# Altium footprint library adafruit.PCBLIB: 643 footprints (part 36 of 41)
Each footprint in its own frame and in the unit in brackets; x right, y up, seen from the top. Pads: shape width x height; smd on the part's side, far side on the other; paste and mask are expansions set on the pad; w line width, h text height; cw(c..) or ccw(c..) is an arc to the next point about the centre after c.
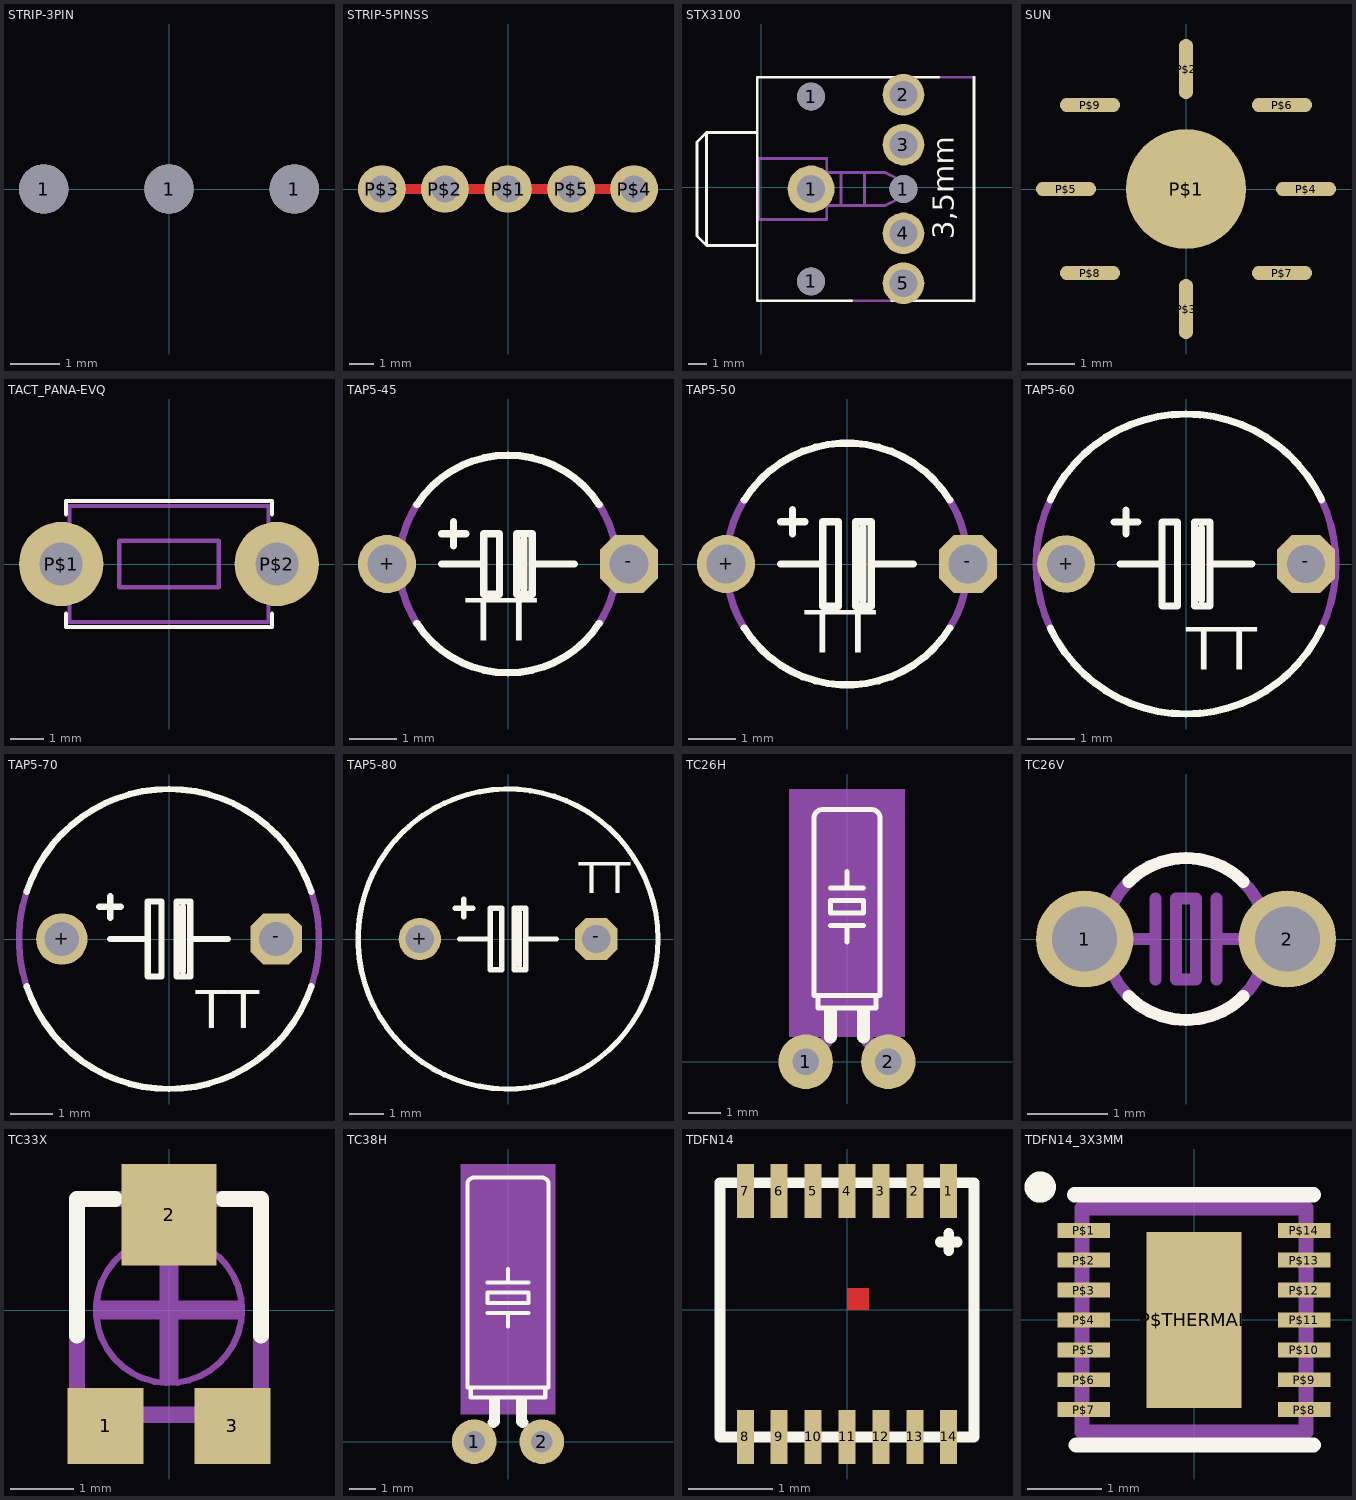
[diagram p35: the footprints below, top view; thin cyan lines are the x and y axes]

## STRIP-3PIN [mm]
pads (3):
  round 1 hole 1: 1(-2.54,0) 1(0,0) 1(2.54,0)
Top Layer:
  region: 0,0 0.254,0 0.254,0.254 0,0.254

## STRIP-5PINSS [mil]
pads (5):
  round 76 hole 43.31: P$1(0,0) P$2(-100,0) P$3(-200,0) P$4(200,0) P$5(100,0)
Top Layer:
  lines w16: -200,0 200,0

## STX3100 [mm]
pads (8):
  round 1.5 hole 1.5: 1(2.7,-5.1) 1(2.7,4.9) 1(7.7,-0.1)
  round 2.54 hole 1.5: 1(2.7,-0.1)
  round 2.25 hole 1.5: 2(7.7,5) 3(7.7,2.3) 4(7.7,-2.5) 5(7.7,-5.2)
Top Overlay:
  lines w0.152: 4.906,-6.142 -0.212,-6.142 -0.212,-3.148 ; 7.065,-6.142 11.512,-6.142 11.512,5.942 11.51,5.942 ; 9.605,5.942 -0.212,5.942 -0.212,2.948 ; -2.96,-3.148 -0.212,-3.148 ; -2.96,-3.148 -3.468,-2.64 -3.468,2.44 -2.96,2.948 ; -2.96,-3.148 -2.96,2.948 ; -2.96,2.948 -0.212,2.948 ; -0.212,-3.148 -0.212,2.948
  text "3,5mm" at 10.79,-2.831 h1.97
Mechanical 16:
  lines w0.152: 4.806,-6.142 6.965,-6.142 ; 9.605,5.942 11.51,5.942 ; 3.552,-0.989 3.552,0.789 ; 3.552,-0.989 3.552,-1.751 -0.131,-1.751 -0.131,1.551 3.552,1.551 3.552,0.789 ; 3.552,-0.989 4.314,-0.989 ; 3.552,0.789 4.314,0.789 ; 4.314,-0.989 5.584,-0.989 ; 4.314,-0.989 4.314,0.789 ; 4.314,0.789 5.584,0.789 ; 5.584,-0.989 5.584,0.789 ; 5.584,-0.989 6.727,-0.989 7.489,-0.608 7.489,0.408 6.727,0.789 5.584,0.789

## SUN [mil]
pads (9):
  rrect100% 100x100 smd: P$1(0,0)
  rrect100% 12x50 smd: P$2(0,100) P$3(0,-100)
  rrect100% 50x12 smd: P$4(100,0) P$5(-100,0) P$6(80,70) P$7(80,-70) P$8(-80,-70) P$9(-80,70)

## TACT_PANA-EVQ [mil]
pads (2):
  round 100 hole 51.18: P$1(-127.95,0) P$2(127.95,0)
Top Overlay:
  lines w5: -122.05,-59.06 -122.05,-74.8 122.05,-74.8 122.05,-59.06 ; -122.05,59.06 -122.05,74.8 122.05,74.8 122.05,59.06
Mechanical 16:
  lines w5: -118.11,-19.69 -118.11,-68.9 118.11,-68.9 118.11,-19.69 ; -118.11,-19.69 -118.11,19.69 ; -118.11,-19.69 -118.11,19.69 ; -118.11,-19.69 -155.51,-19.69 -155.51,0 -155.51,19.69 -118.11,19.69 ; -118.11,19.69 -118.11,68.9 118.11,68.9 118.11,19.69 ; 118.11,-19.69 118.11,19.69 ; 118.11,-19.69 118.11,19.69 ; 118.11,-19.69 155.51,-19.69 155.51,19.69 ; 118.11,19.69 155.51,19.69 ; 118.11,19.69 155.51,19.69 ; -59.06,-27.56 59.06,-27.56 59.06,27.56 -59.06,27.56 -59.06,-27.56

## TAP5-45 [mil]
pads (2):
  round 48 hole 32: +(-100,0)
  oct 48x48 hole 32: -(100,0)
Top Overlay:
  lines w6: -75.37,-49.18 ccw(c0,0) 75.37,-49.18 ; -75.37,49.18 cw(c0,0) 75.37,49.18 ; -55,0 -20,0 ; -55,25 -35,25 ; -45,15 -45,35 ; 13,-20 13,20 ; 55,0 20,0 ; -20,0 -20,-25 -7,-25 -7,25 -20,25 -20,0 ; 20,0 20,-25 7,-25 7,25 20,25 20,0
  text "TT" at -35,-75 h60.45
Mechanical 16:
  lines w6: -75.37,-49.18 cw(c0,0) -75.37,49.18 ; 75.37,-49.18 ccw(c0,0) 75.37,49.18

## TAP5-50 [mil]
pads (2):
  round 48 hole 32: +(-100,0)
  oct 48x48 hole 32: -(100,0)
Top Overlay:
  lines w6: -84.87,-52.88 ccw(c0,0) 84.87,-52.88 ; -84.87,52.88 cw(c0,0) 84.87,52.88 ; -55,0 -20,0 ; -55,35 -35,35 ; -45,25 -45,45 ; 13,-30 13,30 ; 55,0 20,0 ; -20,0 -20,-35 -7,-35 -7,35 -20,35 -20,0 ; 20,0 20,-35 7,-35 7,35 20,35 20,0
  text "TT" at -35,-85 h60.45
Mechanical 16:
  lines w6: -84.87,-52.88 cw(c0,0) -84.87,52.88 ; 84.87,-52.88 ccw(c0,0) 84.87,52.88

## TAP5-60 [mil]
pads (2):
  round 48 hole 32: +(-100,0)
  oct 48x48 hole 32: -(100,0)
Top Overlay:
  lines w6: -113,-53.44 ccw(c0,0) 113,-53.44 ; -113,53.44 cw(c0,0) 113,53.44 ; -60,35 -40,35 ; -55,0 -20,0 ; -50,25 -50,45 ; 13,-30 13,30 ; 55,0 20,0 ; -20,0 -20,-35 -7,-35 -7,35 -20,35 -20,0 ; 20,0 20,-35 7,-35 7,35 20,35 20,0
  text "TT" at 0,-100 h60.45
Mechanical 16:
  lines w6: -113,-53.44 cw(c0,0) -113,53.44 ; 113,-53.44 ccw(c0,0) 113,53.44

## TAP5-70 [mil]
pads (2):
  round 48 hole 32: +(-100,0)
  oct 48x48 hole 32: -(100,0)
Top Overlay:
  lines w6: -132.87,-44.09 ccw(c0,0) 132.87,-44.09 ; -132.87,44.09 cw(c0,0) 132.87,44.09 ; -65,30 -45,30 ; -55,0 -20,0 ; -55,20 -55,40 ; 13,-30 13,30 ; 55,0 20,0 ; -20,0 -20,-35 -7,-35 -7,35 -20,35 -20,0 ; 20,0 20,-35 7,-35 7,35 20,35 20,0
  text "TT" at 25,-95 h60.45
Mechanical 16:
  lines w6: -132.87,-44.09 cw(c0,0) -132.87,44.09 ; 132.87,-44.09 ccw(c0,0) 132.87,44.09

## TAP5-80 [mil]
pads (2):
  round 48 hole 32: +(-100,0)
  oct 48x48 hole 32: -(100,0)
Top Overlay:
  circle w6: c0,0 r170
  lines w6: -60,35 -40,35 ; -55,0 -20,0 ; -50,25 -50,45 ; 13,-30 13,30 ; 55,0 20,0 ; -20,0 -20,-35 -7,-35 -7,35 -20,35 -20,0 ; 20,0 20,-35 7,-35 7,35 20,35 20,0
  text "TT" at 80,40 h60.45

## TC26H [mil]
pads (2):
  round 66 hole 32: 1(-50,0) 2(50,0)
Top Overlay:
  rectangle: 12,40 28,63
  rectangle: -28,40 -12,63
  lines w6: -20,165 0,165 ; -20,210 0,210 ; 0,145 0,165 ; 0,230 0,210 ; 20,165 0,165 ; 20,210 0,210 ; -35,80 -35,65 35,65 35,80 ; -35,80 -40,80 -40,295 cw(c-30,295) -30,305 30,305 cw(c30,295) 40,295 40,80 35,80 ; -35,80 35,80 ; -20,180 -20,195 20,195 20,180 -20,180
  lines w16: -20,30 -20,50 ; 20,30 20,45
Mechanical 10:
  rectangle: -70,30 70,330
Mechanical 16:
  lines w16: -50,0 -25,25 ; 25,25 50,0

## TC26V [mil]
pads (2):
  round 48 hole 32: 1(-50,0) 2(50,0)
Top Overlay:
  lines w6: -28.28,-28.28 ccw(c0.01,0) 0,-40 ccw(c-0.01,0) 28.28,-28.28 ; -28.28,28.28 cw(c0.01,0) 0,40 cw(c-0.01,0) 28.28,28.28
Mechanical 16:
  circle w6: c0,0 r40
  lines w6: -30,0 -15,0 ; -15,-20 -15,0 ; -15,20 -15,0 ; 15,-20 15,0 ; 15,20 15,0 ; 30,0 15,0 ; -5,-20 5,-20 5,20 -5,20 -5,-20

## TC33X [mm]
pads (3):
  rect 1.2x1.2 smd: 1(-1,-1.825) 3(1,-1.825)
  rect 1.5x1.6 smd: 2(0,1.5)
Top Overlay:
  lines w0.254: -1.45,-0.4 -1.45,1.75 -0.85,1.75 ; 0.85,1.75 1.45,1.75 1.45,-0.4
Mechanical 16:
  circle w0.102: c0,0 r1.15
  rectangle: -1.15,-0.15 1.15,0.15
  rectangle: -0.15,-1.15 0.15,1.15
  lines w0.254: -1.45,-1.65 -1.45,1.75 1.45,1.75 1.45,-1.65 -1.45,-1.65

## TC38H [mil]
pads (2):
  round 66 hole 32: 1(-50,0) 2(50,0)
Top Overlay:
  rectangle: 12,40 28,63
  rectangle: -28,40 -12,63
  lines w6: -30,190 0,190 ; -30,235 0,235 ; 0,170 0,190 ; 0,255 0,235 ; 30,190 0,190 ; 30,235 0,235 ; -55,80 -55,65 55,65 55,80 ; -55,80 -60,80 -60,380 cw(c-50,380) -50,390 50,390 cw(c50,380) 60,380 60,80 55,80 ; -55,80 55,80 ; -30,205 -30,220 30,220 30,205 -30,205
  lines w16: -22,28 -20,30 -20,40 ; 20,45 20,30 22,28
Mechanical 10:
  rectangle: -70,40 70,410
Mechanical 16:
  lines w6: -50,0 -25,25 ; 25,25 50,0

## TDFN14 [mil]
pads (14):
  rect 7.87x25.2 smd: 1(47.24,55.12) 2(31.5,55.12) 3(15.75,55.12) 4(0,55.12) 5(-15.75,55.12) 6(-31.5,55.12) 7(-47.24,55.12) 8(-47.24,-59.06) 9(-31.5,-59.06) 10(-15.75,-59.06) 11(0,-59.06) 12(15.75,-59.06) 13(31.5,-59.06) 14(47.24,-59.06)
Top Layer:
  region: 0,0 10,0 10,10 0,10
Top Overlay:
  lines w5: 43.31,31.5 51.18,31.5 ; 47.24,27.56 47.24,35.43 ; -59.06,-59.06 59.06,-59.06 59.06,59.06 -59.06,59.06 -59.06,-59.06
Top Paste:
  region: 0,0 10,0 10,10 0,10
  region: 0,0 10,0 10,10 0,10
  region: 0,0 10,0 10,10 0,10
  region: 0,0 10,0 10,10 0,10
  region: 0,0 10,0 10,10 0,10
  region: 0,0 10,0 10,10 0,10
  region: 0,0 10,0 10,10 0,10
  region: 0,0 10,0 10,10 0,10
Top Solder:
  region: 0,0 10,0 10,10 0,10

## TDFN14_3X3MM [mil]
pads (15):
  rect 27.56x7.87 smd: P$1(-58.07,47.24) P$2(-58.07,31.5) P$3(-58.07,15.75) P$4(-58.07,0) P$5(-58.07,-15.75) P$6(-58.07,-31.5) P$7(-58.07,-47.24) P$8(58.07,-47.24) P$9(58.07,-31.5) P$10(58.07,-15.75) P$11(58.07,0) P$12(58.07,15.75) P$13(58.07,31.5) P$14(58.07,47.24)
  rect 50x92.52 smd: P$THERMAL(0,0)
Top Overlay:
  circle w12: c-81,70 r2.24
  lines w8: -62.99,65.94 62.99,65.94 ; -62.01,-65.94 62.99,-65.94
Top Paste:
  rectangle: -19.69,7.87 -3.94,39.37
  rectangle: 3.94,7.87 19.69,39.37
  rectangle: -19.69,-39.37 -3.94,-7.87
  rectangle: 3.94,-39.37 19.69,-7.87
  rectangle: -71.85,43.31 -44.29,51.18
  rectangle: -71.85,27.56 -44.29,35.43
  rectangle: -71.85,11.81 -44.29,19.69
  rectangle: -71.85,-3.94 -44.29,3.94
  rectangle: -71.85,-19.69 -44.29,-11.81
  rectangle: -71.85,-35.43 -44.29,-27.56
  rectangle: -71.85,-51.18 -44.29,-43.31
  region: 71.85,51.18 44.29,51.18 44.29,43.31 71.85,43.31
  region: 71.85,35.43 44.29,35.43 44.29,27.56 71.85,27.56
  region: 71.85,19.69 44.29,19.69 44.29,11.81 71.85,11.81
  region: 71.85,3.94 44.29,3.94 44.29,-3.94 71.85,-3.94
  region: 71.85,-11.81 44.29,-11.81 44.29,-19.69 71.85,-19.69
  region: 71.85,-27.56 44.29,-27.56 44.29,-35.43 71.85,-35.43
  region: 71.85,-43.31 44.29,-43.31 44.29,-51.18 71.85,-51.18
Top Solder:
  rectangle: -74.8,-54.13 -41.34,54.13
  rectangle: 41.34,-54.13 74.8,54.13
Mechanical 16:
  lines w8: -59.06,-59.06 59.06,-59.06 59.06,59.06 -59.06,59.06 -59.06,-59.06